# EAGLE library part DRV8825PWP (library DRV8825PWP)
2.5A Bipolar Stepper Motor Driver with On-Chip 1/32 Microstepping Indexer (Step/Dir Ctrl) 28-HTSSOP -40 to 85
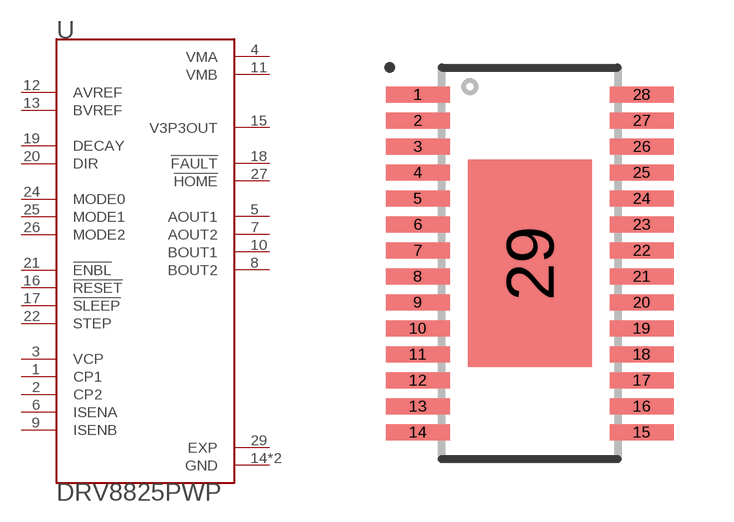
[diagram p0: symbol with the pads of SOP65P640X120-28N; footprint SOP65P640X120-28N]

Designator prefix U

## DRV8825PWP (Description: 2.5A Bipolar Stepper Motor Driver with On-Chip 1/32 Microstepping Indexer _Step/Dir Ctrl_ 28-HTSSOP -40 to 85; Digi-Key_Part_Number: 296-28915-5-ND; Digi-Key_Purchase_URL: https://www.digikey.ca/product-detail/en/texas-instruments/DRV8825PWP/296-28915-5-ND/2676775?utm_source=snapeda&utm_medium=aggregator&utm_campaign=symbol; MF: Texas Instruments; MP: DRV8825PWP; Package: HTSSOP-28 Texas Instruments)  [SOP65P640X120-28N]
1  CP1
2  CP2
3  VCP
4  VMA  pwr
5  AOUT1  out
6  ISENA
7  AOUT2  out
8  BOUT2  out
9  ISENB
10  BOUT1  out
11  VMB  pwr
12  AVREF  in
13  BVREF  in
14  GND  pas
15  V3P3OUT  out
16  !RESET  in
17  !SLEEP  in
18  !FAULT  out
19  DECAY  in
20  DIR  in
21  !ENBL  in
22  STEP  in
24  MODE0  in
25  MODE1  in
26  MODE2  in
27  !HOME  out
28  GND  pas
29  EXP  pas

## Footprint SOP65P640X120-28N (pad centres in mm)
smd 1.6 x 0.4: 1 -2.8,4.225; 2 -2.8,3.575; 3 -2.8,2.925; 4 -2.8,2.275; 5 -2.8,1.625; 6 -2.8,0.975; 7 -2.8,0.325; 8 -2.8,-0.325; 9 -2.8,-0.975; 10 -2.8,-1.625; 11 -2.8,-2.275; 12 -2.8,-2.925; 13 -2.8,-3.575; 14 -2.8,-4.225; 15 2.8,-4.225; 16 2.8,-3.575; 17 2.8,-2.925; 18 2.8,-2.275; 19 2.8,-1.625; 20 2.8,-0.975; 21 2.8,-0.325; 22 2.8,0.325; 23 2.8,0.975; 24 2.8,1.625; 25 2.8,2.275; 26 2.8,2.925; 27 2.8,3.575; 28 2.8,4.225
smd 3.1 x 5.18: 29 0,0